# Altium footprint library 20021321-00010C1LF.PcbLib: 1 footprints
Each footprint in its own frame and in the unit in brackets; x right, y up, seen from the top. Pads: shape width x height; smd on the part's side, far side on the other; paste and mask are expansions set on the pad; w line width, h text height; cw(c..) or ccw(c..) is an arc to the next point about the centre after c.
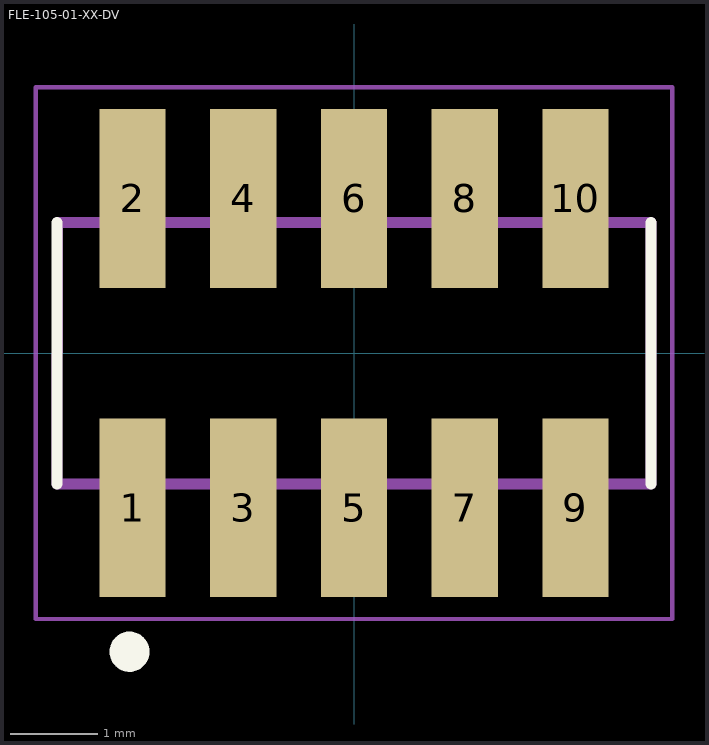
[diagram p0: the footprint, top view; thin cyan lines are the x and y axes]

## FLE-105-01-XX-DV [mm]
pads (10):
  rect 0.76x2.05 smd: 1(-2.54,-1.775) 2(-2.54,1.775) 3(-1.27,-1.775) 4(-1.27,1.775) 5(0,-1.775) 6(0,1.775) 7(1.27,-1.775) 8(1.27,1.775) 9(2.54,-1.775) 10(2.54,1.775)
Top Overlay:
  circle w0.254: c-2.575,-3.425 r0.103
  lines w0.127: -3.405,-1.5 -3.405,1.5 ; 3.405,-1.5 3.405,1.5
Mechanical 13:
  lines w0.127: -3.405,-1.5 -3.4,1.5 3.4,1.5 ; -3.4,-1.5 3.4,-1.5 ; 3.405,-1.5 3.405,1.5
Mechanical 15 (Mech15):
  lines w0.05: -3.65,-3.05 3.65,-3.05 3.65,3.05 -3.65,3.05 -3.65,-3.05
3D body "FLE-105-01-G-DV-TR.stp": height 4.37, standoff -0.18, extent -3.232,-2.297 3.232,2.298